# EAGLE library part LOG112 (library opamps)
LOG112: Logarithmic amplifier (Burr-Brown) ±15V, ±15mA, 5pA bias 15mV output offset, 45kHz UGF, 30nV/rt(Hz) noise
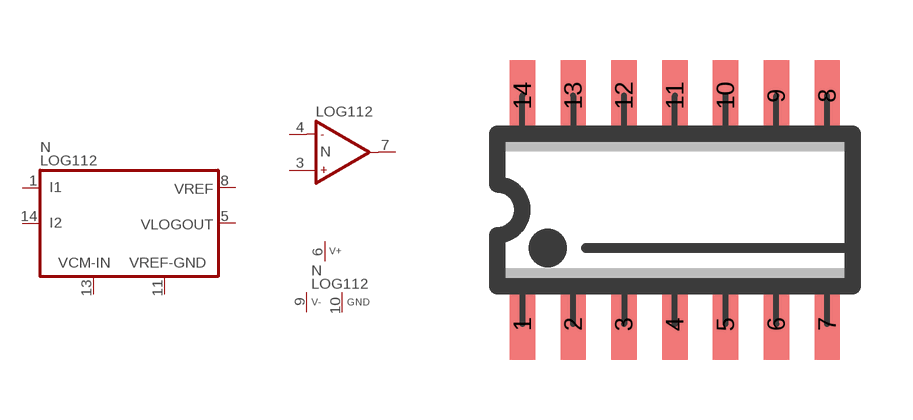
[diagram p233: symbol with the pads of SO14; footprint SO14]

Designator prefix N; gates A=LOG112 P=V+-GND B=OP-PART

## LOG112  [SO14]
1  A:I1  in
3  B:IN+  in
4  B:IN-  in
5  A:VLOGOUT  out
6  P:V+  pwr
7  B:OUT  out
8  A:VREF  out
9  P:V-  pwr
10  P:GND  pwr
11  A:VREF-GND
13  A:VCM-IN
14  A:I2  in

## LOG112S  [SO14]
Pads as for SO14

## Footprint SO14 (pad centres in mm)
SO-14, SMD SOIC IC package, 14 pins
smd 0.635 x 1.778: 1 -3.81,-2.857; 2 -2.54,-2.857; 3 -1.27,-2.857; 4 0,-2.857; 5 1.27,-2.857; 6 2.54,-2.857; 7 3.81,-2.857; 8 3.81,2.857; 9 2.54,2.857; 10 1.27,2.857; 11 0,2.857; 12 -1.27,2.857; 13 -2.54,2.857; 14 -3.81,2.857